# Altium schematic symbol library VNH5019ATR-E.SchLib: 1 symbol
Pins are listed as number, name and electrical type; pins without a type are passive.

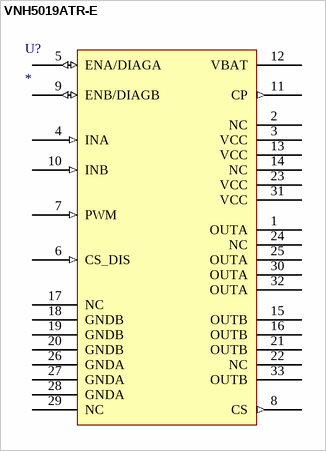
[diagram p0: symbol VNH5019ATR-E]

## VNH5019ATR-E
designator U?
Automotive fully integrated H-bridge motor driver, 30A max, MultiPowerSO-30 package.; Manufacturer: STMicroelectronics; Manufacturer Part Number: VNH5019ATR-E; Number of Outputs: 1; Case/Package: MultiPowerSO-30; Supplier 1: Digi-Key; Stock 1: 10; Pricing 1: 1 = 8.30000, 10 = 7.49900, 100 = 6.20840, 500 = 5.40614 (USD); RoHS: Yes; Mount: Surface Mount; Number of Pins: 30; Min Operating Temperature: -40°C; Max Operating Temperature: 150°C; Packaging: Tape and Reel; Package Quantity: 1; Output Current: 30A; Lead Free: Lead Free; ComponentLink1URL: http://www.st.com/content/ccc/resource/technical/document/datasheet/1c/26/60/a8/3e/70/4c/e1/CD00234623.pdf/files/CD00234623.pdf/jcr:content/translations/en.CD00234623.pdf?src-supplier=Digi-Key; ComponentLink1Description: http://www.st.com/content/ccc/resource/technical/document/datasheet/1c/26/60/a8/3e/70/4c/e1/CD00234623.pdf/files/CD00234623.pdf/jcr:content/translations/en.CD00234623.pdf?src-supplier=Digi-Key; ComponentLink2URL: http://www.mouser.com/ds/2/389/CD00234623-310726.pdf?src-supplier=Mouser; ComponentLink2Description: http://www.mouser.com/ds/2/389/CD00234623-310726.pdf?src-supplier=Mouser; ComponentLink3URL: http://www.produktinfo.conrad.com/datenblaetter/1100000-1199999/001184790-da-01-en-IC_MOTOR_DRIVER_VNH5019ATR_E_SOP_30_STM.pdf?src-supplier=Conrad; ComponentLink3Description: http://www.produktinfo.conrad.com/datenblaetter/1100000-1199999/001184790-da-01-en-IC_MOTOR_DRIVER_VNH5019ATR_E_SOP_30_STM.pdf?src-supplier=Conrad; Supplier Part Number 1: 497-13073-1-ND; Pin Count: 30
footprint MultiPowerSO-30-M (SOP, 30-Leads, Body 17.20x16.00mm, Pitch 1.00mm,MultiPowerSO-30 Thermal Pad Design, IPC Low Density)
pins: 1 OUTA, 2 NC, 3 VCC (power), 4 INA (in), 5 ENA/DIAGA (io), 6 CS_DIS (in), 7 PWM (in), 8 CS (out), 9 ENB/DIAGB (io), 10 INB (in), 11 CP (out), 12 VBAT (power), 13 VCC (power), 14 NC, 15 OUTB, 16 OUTB, 17 NC, 18 GNDB (power), 19 GNDB (power), 20 GNDB (power), 21 OUTB, 22 NC, 23 VCC (power), 24 NC, 25 OUTA, 26 GNDA (power), 27 GNDA (power), 28 GNDA (power), 29 NC, 30 OUTA, 31 VCC (power), 32 OUTA, 33 OUTB